# Altium integrated library lib_murata.IntLib: 1 symbol
Pins are listed as number, name and electrical type; pins without a type are passive.

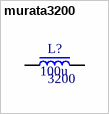
[diagram p0: symbol murata3200]

## murata3200
designator L?, comment 3200  value 100u
3200 Series / Vertical Mount Toroidal Inductors; ComponentLink1Description: Datasheet; ComponentLink1URL: http://www.farnell.com/datasheets/1482174.pdf
footprint MURATA3200
pins: 1, 3